# Altium footprint library SMD2018.PcbLib: 1 footprints
Each footprint in its own frame and in the unit in brackets; x right, y up, seen from the top. Pads: shape width x height; smd on the part's side, far side on the other; paste and mask are expansions set on the pad; w line width, h text height; cw(c..) or ccw(c..) is an arc to the next point about the centre after c.
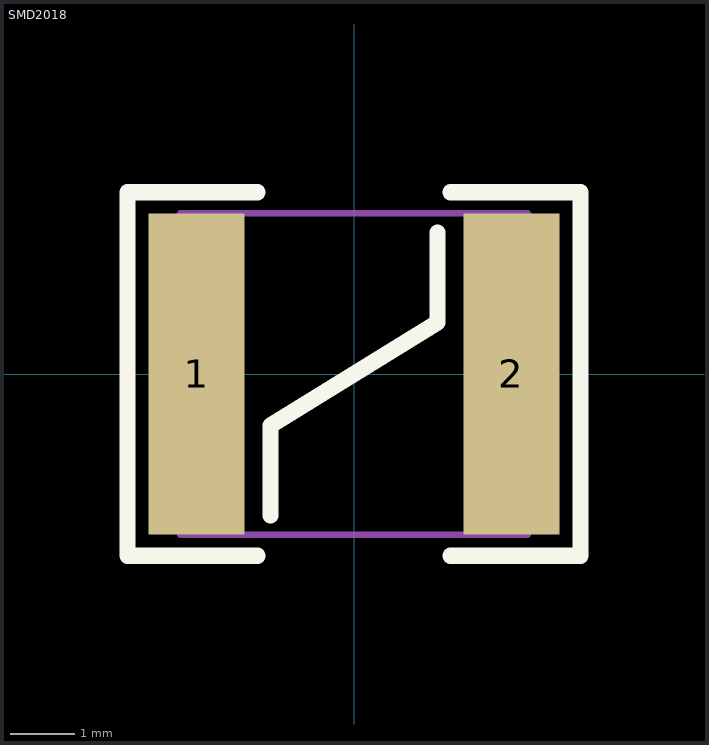
[diagram p0: the footprint, top view; thin cyan lines are the x and y axes]

## SMD2018 [mm]
pads (2):
  rect 1.5x5 smd: 1(-2.45,0) 2(2.45,0)
Top Overlay:
  lines w0.254: -1.5,-2.825 -3.525,-2.825 -3.525,2.825 -1.5,2.825 ; -1.3,-2.2 -1.3,-0.8 1.3,0.8 1.3,2.2 ; 1.5,-2.825 3.525,-2.825 3.525,2.825 1.5,2.825
Mechanical 13:
  lines w0.1: -2.7,-2.5 -2.7,2.5 2.7,2.5 2.7,-2.5 -2.7,-2.5